# Altium schematic symbol library USB-Type-C-16Pin.SCHLIB: 1 symbol
Pins are listed as number, name and electrical type; pins without a type are passive.

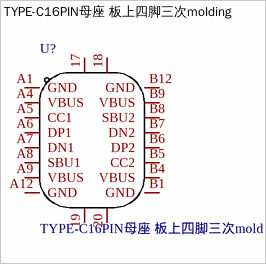
[diagram p0: symbol TYPE-C16PIN母座 板上四脚三次molding]

## TYPE-C16PIN母座 板上四脚三次molding
designator U?
Add into BOM: yes; Symbol: TYPE-C16PIN母座 板上四脚三次MOLDING; Device: TYPE-C16PIN母座 板上四脚三次molding; LCSC Part Name: TYPE-C16PIN母座 板上四脚三次molding; Supplier Part: C9900000202; Manufacturer Part: TYPE-C16PIN母座 板上四脚三次molding; Supplier Footprint: TYPE-C16PIN; JLCPCB Part Class: 扩展库; Datasheet: 2021-09-15/03900G/aaf837f0873f462e9eab7ac60a9bb940/aac77-74p5r.pdf; Supplier: LCSC; Convert to PCB: yes; Name: TYPE-C16PIN母座 板上四脚三次molding
footprint USB-SMD_TYPE-C16PIN
pins: 17, 18, 19, 20, A1 GND, A4 VBUS, A5 CC1, A6 DP1, A7 DN1, A8 SBU1, A9 VBUS, A12 GND, B1 GND, B4 VBUS, B5 CC2, B6 DP2, B7 DN2, B8 SBU2, B9 VBUS, B12 GND